# Altium schematic symbol library UART.SchLib: 1 symbol
Pins are listed as number, name and electrical type; pins without a type are passive.

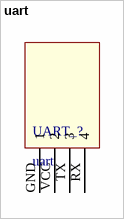
[diagram p0: symbol uart]

## uart
designator UART_?
footprint PCBComponent_1
pins: GND 1, RX 4, TX 3, VCC 2